# EAGLE library part C-02235 (library akizukidenshi)
USB-MiniB 基板取付用ＵＳＢコネクタ・ミニＢ スルーホールタイプ C-02235 http://akizukidenshi.com/catalog/g/gC-02235/ http://akizukidenshi.com/download/c2235_dim.pdf
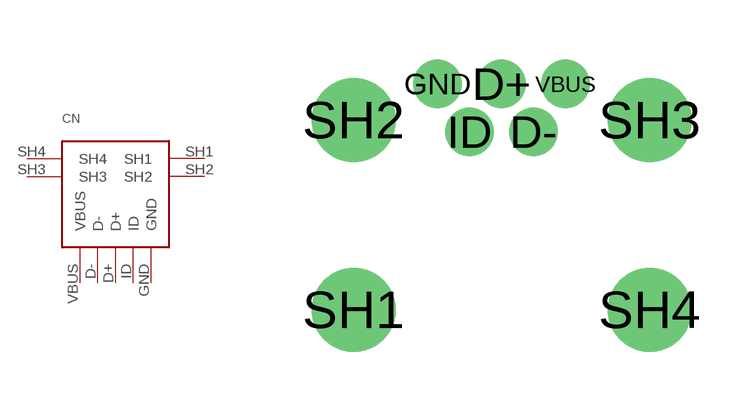
[diagram p0: symbol with the pads of C-02235; footprint C-02235]

Designator prefix CN

## C-02235  [C-02235]
D+  D+
D-  D-
GND  GND
ID  ID
SH1  SH1
SH2  SH2
SH3  SH3
SH4  SH4
VBUS  VBUS

## Footprint C-02235 (pad centres in mm)
基板取付用ＵＳＢコネクタ・ミニＢ スルーホールタイプ http://akizukidenshi.com/catalog/g/gC-02235/ http://akizukidenshi.com/download/c2235_dim.pdf
drill 0.7: D+ 0,3.4; D- 0.8,2.2; GND -1.6,3.4; ID -0.8,2.2; VBUS 1.6,3.4
drill 1.4: SH1 -3.7,-2.25; SH2 -3.7,2.5; SH3 3.7,2.5; SH4 3.7,-2.25